# Altium integrated library WE-TI_rev15a.intlib: 113 symbols (part 2 of 2)
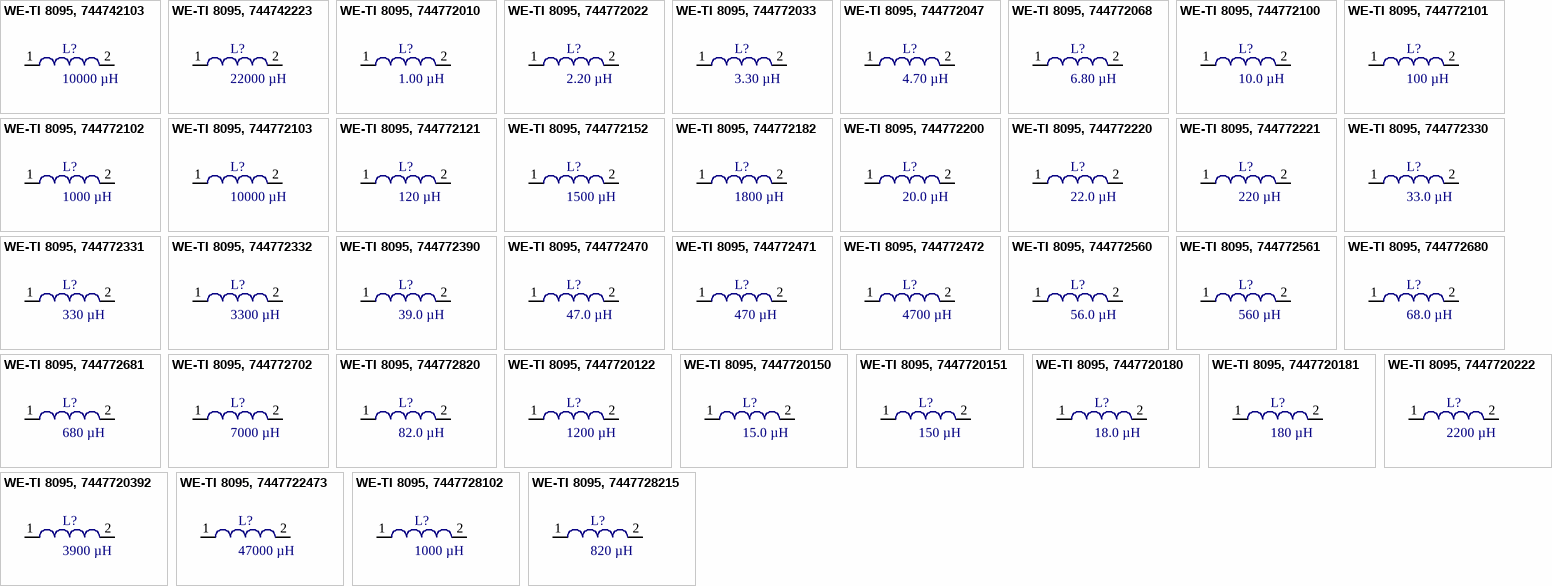
[diagram p8: symbols WE-TI 8095, 744742103 to WE-TI 8095, 7447728215]

## WE-TI 8095, 744772470
designator L?, comment 47.0 µH
Radial Leaded Wire Wound Inductor WE-TI, L=47.0 µH; partNo: 744772470; Manufacturer: Würth Elektronik eiSos GmbH; Inductance: 47.0 µH; ComponentLink1Description: Manufacturer; ComponentLink1URL: http://www.we-online.de; Created by: Christin Zierenner; Created Date: July 2009; ComponentLink2Description: Datasheet; ComponentLink2URL: http://www.we-online.de/katalog/media/pdf/744772470.pdf
footprint WE-TI 8095 (THT Inductor, 2-Leads, Body 7,8  mm)
pins: 1, 2

## WE-TI 8095, 744772471
designator L?, comment 470 µH
Radial Leaded Wire Wound Inductor WE-TI, L=470 µH; partNo: 744772471; Manufacturer: Würth Elektronik eiSos GmbH; Inductance: 470 µH; ComponentLink1Description: Manufacturer; ComponentLink1URL: http://www.we-online.de; Created by: Christin Zierenner; Created Date: July 2009; ComponentLink2Description: Datasheet; ComponentLink2URL: http://www.we-online.de/katalog/media/pdf/744772471.pdf
footprint WE-TI 8095 (THT Inductor, 2-Leads, Body 7,8  mm)
pins: 1, 2

## WE-TI 8095, 744772472
designator L?, comment 4700 µH
Radial Leaded Wire Wound Inductor WE-TI, L=4700 µH; partNo: 744772472; Manufacturer: Würth Elektronik eiSos GmbH; Inductance: 4700 µH; ComponentLink1Description: Manufacturer; ComponentLink1URL: http://www.we-online.de; Created by: Christin Zierenner; Created Date: March 2010; ComponentLink2Description: Datasheet; ComponentLink2URL: http://www.we-online.de/katalog/media/pdf/744772472.pdf
footprint WE-TI 8095 (THT Inductor, 2-Leads, Body 7,8  mm)
pins: 1, 2

## WE-TI 8095, 744772560
designator L?, comment 56.0 µH
Radial Leaded Wire Wound Inductor WE-TI, L=56.0 µH; partNo: 744772560; Manufacturer: Würth Elektronik eiSos GmbH; Inductance: 56.0 µH; ComponentLink1Description: Manufacturer; ComponentLink1URL: http://www.we-online.de; Created by: Christin Zierenner; Created Date: July 2009; ComponentLink2Description: Datasheet; ComponentLink2URL: http://www.we-online.de/katalog/media/pdf/744772560.pdf
footprint WE-TI 8095 (THT Inductor, 2-Leads, Body 7,8  mm)
pins: 1, 2

## WE-TI 8095, 744772561
designator L?, comment 560 µH
Radial Leaded Wire Wound Inductor WE-TI, L=560 µH; partNo: 744772561; Manufacturer: Würth Elektronik eiSos GmbH; Inductance: 560 µH; ComponentLink1Description: Manufacturer; ComponentLink1URL: http://www.we-online.de; Created by: Christin Zierenner; Created Date: July 2009; ComponentLink2Description: Datasheet; ComponentLink2URL: http://www.we-online.de/katalog/media/pdf/744772561.pdf
footprint WE-TI 8095 (THT Inductor, 2-Leads, Body 7,8  mm)
pins: 1, 2

## WE-TI 8095, 744772680
designator L?, comment 68.0 µH
Radial Leaded Wire Wound Inductor WE-TI, L=68.0 µH; partNo: 744772680; Manufacturer: Würth Elektronik eiSos GmbH; Inductance: 68.0 µH; ComponentLink1Description: Manufacturer; ComponentLink1URL: http://www.we-online.de; Created by: Christin Zierenner; Created Date: July 2009; ComponentLink2Description: Datasheet; ComponentLink2URL: http://www.we-online.de/katalog/media/pdf/744772680.pdf
footprint WE-TI 8095 (THT Inductor, 2-Leads, Body 7,8  mm)
pins: 1, 2

## WE-TI 8095, 744772681
designator L?, comment 680 µH
Radial Leaded Wire Wound Inductor WE-TI, L=680 µH; partNo: 744772681; Manufacturer: Würth Elektronik eiSos GmbH; Inductance: 680 µH; ComponentLink1Description: Manufacturer; ComponentLink1URL: http://www.we-online.de; Created by: Christin Zierenner; Created Date: July 2009; ComponentLink2Description: Datasheet; ComponentLink2URL: http://www.we-online.de/katalog/media/pdf/744772681.pdf
footprint WE-TI 8095 (THT Inductor, 2-Leads, Body 7,8  mm)
pins: 1, 2

## WE-TI 8095, 744772702
designator L?, comment 7000 µH
Radial Leaded Wire Wound Inductor WE-TI, L=7000 µH; partNo: 744772702; Manufacturer: Würth Elektronik eiSos GmbH; Inductance: 7000 µH; ComponentLink1Description: Manufacturer; ComponentLink1URL: http://www.we-online.de; Created by: Christin Otto; Created Date: November 2013; ComponentLink2Description: Datasheet; ComponentLink2URL: http://www.we-online.de/katalog/media/pdf/744772702.pdf
footprint WE-TI 8095 (THT Inductor, 2-Leads, Body 7,8  mm)
pins: 1, 2

## WE-TI 8095, 744772820
designator L?, comment 82.0 µH
Radial Leaded Wire Wound Inductor WE-TI, L=82.0 µH; partNo: 744772820; Manufacturer: Würth Elektronik eiSos GmbH; Inductance: 82.0 µH; ComponentLink1Description: Manufacturer; ComponentLink1URL: http://www.we-online.de; Created by: Christin Zierenner; Created Date: July 2009; ComponentLink2Description: Datasheet; ComponentLink2URL: http://www.we-online.de/katalog/media/pdf/744772820.pdf
footprint WE-TI 8095 (THT Inductor, 2-Leads, Body 7,8  mm)
pins: 1, 2

## WE-TI 8095, 7447720122
designator L?, comment 1200 µH
Radial Leaded Wire Wound Inductor WE-TI, L=1200 µH; partNo: 7447720122; Manufacturer: Würth Elektronik eiSos GmbH; Inductance: 1200 µH; ComponentLink1Description: Manufacturer; ComponentLink1URL: http://www.we-online.de; Created by: Christin Zierenner; Created Date: March 2010; ComponentLink2Description: Datasheet; ComponentLink2URL: http://www.we-online.de/katalog/media/pdf/7447720122.pdf
footprint WE-TI 8095 (THT Inductor, 2-Leads, Body 7,8  mm)
pins: 1, 2

## WE-TI 8095, 7447720150
designator L?, comment 15.0 µH
Radial Leaded Wire Wound Inductor WE-TI, L=15.0 µH; partNo: 7447720150; Manufacturer: Würth Elektronik eiSos GmbH; Inductance: 15.0 µH; ComponentLink1Description: Manufacturer; ComponentLink1URL: http://www.we-online.de; Created by: Christin Zierenner; Created Date: July 2009; ComponentLink2Description: Datasheet; ComponentLink2URL: http://www.we-online.de/katalog/media/pdf/7447720150.pdf
footprint WE-TI 8095 (THT Inductor, 2-Leads, Body 7,8  mm)
pins: 1, 2

## WE-TI 8095, 7447720151
designator L?, comment 150 µH
Radial Leaded Wire Wound Inductor WE-TI, L=150 µH; partNo: 7447720151; Manufacturer: Würth Elektronik eiSos GmbH; Inductance: 150 µH; ComponentLink1Description: Manufacturer; ComponentLink1URL: http://www.we-online.de; Created by: Christin Zierenner; Created Date: March 2010; ComponentLink2Description: Datasheet; ComponentLink2URL: http://www.we-online.de/katalog/media/pdf/7447720151.pdf
footprint WE-TI 8095 (THT Inductor, 2-Leads, Body 7,8  mm)
pins: 1, 2

## WE-TI 8095, 7447720180
designator L?, comment 18.0 µH
Radial Leaded Wire Wound Inductor WE-TI, L=18.0 µH; partNo: 7447720180; Manufacturer: Würth Elektronik eiSos GmbH; Inductance: 18.0 µH; ComponentLink1Description: Manufacturer; ComponentLink1URL: http://www.we-online.de; Created by: Christin Otto; Created Date: November 2013; ComponentLink2Description: Datasheet; ComponentLink2URL: http://www.we-online.de/katalog/media/pdf/7447720180.pdf
footprint WE-TI 8095 (THT Inductor, 2-Leads, Body 7,8  mm)
pins: 1, 2

## WE-TI 8095, 7447720181
designator L?, comment 180 µH
Radial Leaded Wire Wound Inductor WE-TI, L=180 µH; partNo: 7447720181; Manufacturer: Würth Elektronik eiSos GmbH; Inductance: 180 µH; ComponentLink1Description: Manufacturer; ComponentLink1URL: http://www.we-online.de; Created by: Christin Zierenner; Created Date: March 2010; ComponentLink2Description: Datasheet; ComponentLink2URL: http://www.we-online.de/katalog/media/pdf/7447720181.pdf
footprint WE-TI 8095 (THT Inductor, 2-Leads, Body 7,8  mm)
pins: 1, 2

## WE-TI 8095, 7447720222
designator L?, comment 2200 µH
Radial Leaded Wire Wound Inductor WE-TI, L=2200 µH; partNo: 7447720222; Manufacturer: Würth Elektronik eiSos GmbH; Inductance: 2200 µH; ComponentLink1Description: Manufacturer; ComponentLink1URL: http://www.we-online.de; Created by: Christin Zierenner; Created Date: March 2010; ComponentLink2Description: Datasheet; ComponentLink2URL: http://www.we-online.de/katalog/media/pdf/7447720222.pdf
footprint WE-TI 8095 (THT Inductor, 2-Leads, Body 7,8  mm)
pins: 1, 2

## WE-TI 8095, 7447720392
designator L?, comment 3900 µH
Radial Leaded Wire Wound Inductor WE-TI, L=3900 µH; partNo: 7447720392; Manufacturer: Würth Elektronik eiSos GmbH; Inductance: 3900 µH; ComponentLink1Description: Manufacturer; ComponentLink1URL: http://www.we-online.de; Created by: Christin Otto; Created Date: November 2013; ComponentLink2Description: Datasheet; ComponentLink2URL: http://www.we-online.de/katalog/media/pdf/7447720392.pdf
footprint WE-TI 8095 (THT Inductor, 2-Leads, Body 7,8  mm)
pins: 1, 2

## WE-TI 8095, 7447722473
designator L?, comment 47000 µH
Radial Leaded Wire Wound Inductor WE-TI, L=47000 µH; partNo: 7447722473; Manufacturer: Würth Elektronik eiSos GmbH; Inductance: 47000 µH; ComponentLink1Description: Manufacturer; ComponentLink1URL: http://www.we-online.de; Created by: Christin Otto; Created Date: November 2ß13; ComponentLink2Description: Datasheet; ComponentLink2URL: http://www.we-online.de/katalog/media/pdf/7447722473.pdf
footprint WE-TI 8095 shrink tube (THT Inductor, 2-Leads, Body 8,0  mm)
pins: 1, 2

## WE-TI 8095, 7447728102
designator L?, comment 1000 µH
Radial Leaded Wire Wound Inductor WE-TI, L=1000 µH; partNo: 7447728102; Manufacturer: Würth Elektronik eiSos GmbH; Inductance: 1000 µH; ComponentLink1Description: Manufacturer; ComponentLink1URL: http://www.we-online.de; Created by: Christin Otto; Created Date: November 2ß13; ComponentLink2Description: Datasheet; ComponentLink2URL: http://www.we-online.de/katalog/media/pdf/7447728102.pdf
footprint WE-TI 8095 shrink tube (THT Inductor, 2-Leads, Body 8,0  mm)
pins: 1, 2

## WE-TI 8095, 7447728215
designator L?, comment 820 µH
Radial Leaded Wire Wound Inductor WE-TI, L=820 µH; partNo: 7447728215; Manufacturer: Würth Elektronik eiSos GmbH; Inductance: 820 µH; ComponentLink1Description: Manufacturer; ComponentLink1URL: http://www.we-online.de; Created by: Christin Zierenner; Created Date: July 2009; ComponentLink2Description: Datasheet; ComponentLink2URL: http://www.we-online.de/katalog/media/pdf/7447728215.pdf
footprint WE-TI 8095 (THT Inductor, 2-Leads, Body 7,8  mm)
pins: 1, 2